# Altium footprint library STM32.PcbLib: 9 footprints
Each footprint in its own frame and in the unit in brackets; x right, y up, seen from the top. Pads: shape width x height; smd on the part's side, far side on the other; paste and mask are expansions set on the pad; w line width, h text height; cw(c..) or ccw(c..) is an arc to the next point about the centre after c.
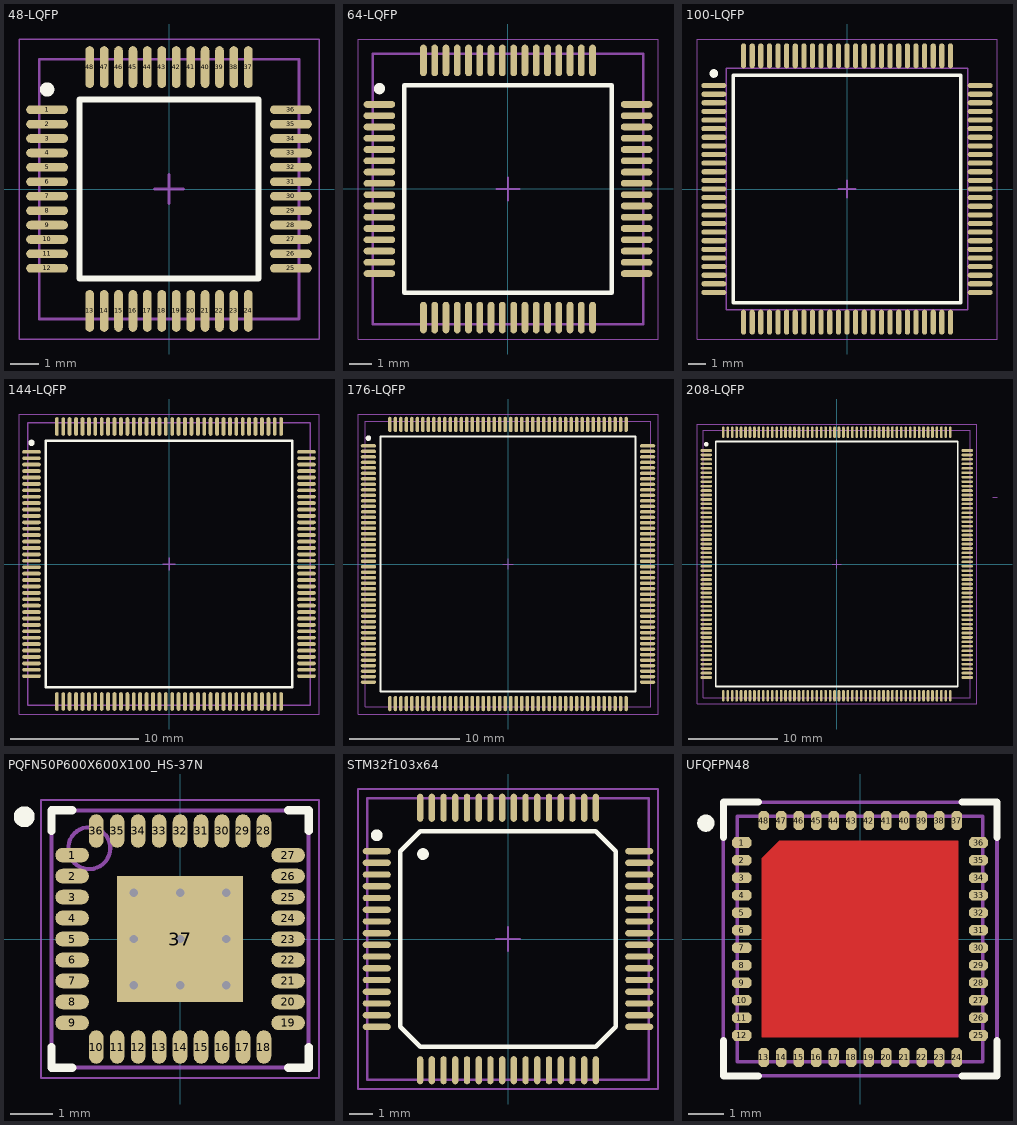
[diagram p0: the footprints below, top view; thin cyan lines are the x and y axes]

## 48-LQFP [mm] "TSQFP, 48-Leads, Body 7,00x7,00mm, Pitch 0,50mm, IPC Medium Density"
height 1.6
pads (48):
  oval 1.45x0.3 smd: 1(-4.225,2.75) 2(-4.225,2.25) 3(-4.225,1.75) 4(-4.225,1.25) 5(-4.225,0.75) 6(-4.225,0.25) 7(-4.225,-0.25) 8(-4.225,-0.75) 9(-4.225,-1.25) 10(-4.225,-1.75) 11(-4.225,-2.25) 12(-4.225,-2.75) 25(4.225,-2.75) 26(4.225,-2.25) 27(4.225,-1.75) 28(4.225,-1.25) 29(4.225,-0.75) 30(4.225,-0.25) 31(4.225,0.25) 32(4.225,0.75) 33(4.225,1.25) 34(4.225,1.75) 35(4.225,2.25) 36(4.225,2.75)
  oval 0.3x1.45 smd: 13(-2.75,-4.225) 14(-2.25,-4.225) 15(-1.75,-4.225) 16(-1.25,-4.225) 17(-0.75,-4.225) 18(-0.25,-4.225) 19(0.25,-4.225) 20(0.75,-4.225) 21(1.25,-4.225) 22(1.75,-4.225) 23(2.25,-4.225) 24(2.75,-4.225) 37(2.75,4.225) 38(2.25,4.225) 39(1.75,4.225) 40(1.25,4.225) 41(0.75,4.225) 42(0.25,4.225) 43(-0.25,4.225) 44(-0.75,4.225) 45(-1.25,4.225) 46(-1.75,4.225) 47(-2.25,4.225) 48(-2.75,4.225)
Top Overlay:
  circle w0.25: c-4.225,3.45 r0.125
  lines w0.2: -3.1,-3.1 3.1,-3.1 3.1,3.1 -3.1,3.1 -3.1,-3.1
Top Assy:
  lines w0.1: -4.5,-4.5 -4.5,4.5 4.5,4.5 4.5,-4.5 -4.5,-4.5
Border:
  lines w0.05: -5.2,-5.2 5.2,-5.2 5.2,5.2 -5.2,5.2 -5.2,-5.2
  lines w0.1: -0.5,0 0.5,0 ; 0,-0.5 0,0.5
3D body "LQFP48_FPT-48P-M05.stp": height 1.5, standoff 0, extent -4.5,-4.5 4.5,4.5

## 64-LQFP [mm] "TSQFP, 64-Leads, Body 10,00x10,00mm, Pitch 0,50mm, IPC Medium Density"
height 1.6
pads (64):
  oval 1.4x0.3 smd: 1(-5.7,3.75) 2(-5.7,3.25) 3(-5.7,2.75) 4(-5.7,2.25) 5(-5.7,1.75) 6(-5.7,1.25) 7(-5.7,0.75) 8(-5.7,0.25) 9(-5.7,-0.25) 10(-5.7,-0.75) 11(-5.7,-1.25) 12(-5.7,-1.75) 13(-5.7,-2.25) 14(-5.7,-2.75) 15(-5.7,-3.25) 16(-5.7,-3.75) 33(5.7,-3.75) 34(5.7,-3.25) 35(5.7,-2.75) 36(5.7,-2.25) 37(5.7,-1.75) 38(5.7,-1.25) 39(5.7,-0.75) 40(5.7,-0.25) 41(5.7,0.25) 42(5.7,0.75) 43(5.7,1.25) 44(5.7,1.75) 45(5.7,2.25) 46(5.7,2.75) 47(5.7,3.25) 48(5.7,3.75)
  oval 0.3x1.4 smd: 17(-3.75,-5.7) 18(-3.25,-5.7) 19(-2.75,-5.7) 20(-2.25,-5.7) 21(-1.75,-5.7) 22(-1.25,-5.7) 23(-0.75,-5.7) 24(-0.25,-5.7) 25(0.25,-5.7) 26(0.75,-5.7) 27(1.25,-5.7) 28(1.75,-5.7) 29(2.25,-5.7) 30(2.75,-5.7) 31(3.25,-5.7) 32(3.75,-5.7) 49(3.75,5.7) 50(3.25,5.7) 51(2.75,5.7) 52(2.25,5.7) 53(1.75,5.7) 54(1.25,5.7) 55(0.75,5.7) 56(0.25,5.7) 57(-0.25,5.7) 58(-0.75,5.7) 59(-1.25,5.7) 60(-1.75,5.7) 61(-2.25,5.7) 62(-2.75,5.7) 63(-3.25,5.7) 64(-3.75,5.7)
Top Overlay:
  circle w0.25: c-5.7,4.45 r0.125
  lines w0.2: -4.6,-4.6 4.6,-4.6 4.6,4.6 -4.6,4.6 -4.6,-4.6
Top Assy:
  lines w0.1: -6,-6 -6,6 6,6 6,-6 -6,-6
Border:
  lines w0.05: -6.65,-6.65 6.65,-6.65 6.65,6.65 -6.65,6.65 -6.65,-6.65
  lines w0.1: -0.5,0 0.5,0 ; 0,-0.5 0,0.5
3D body "LQFP64_FPT-64P-M03.stp": height 1.5, standoff 0, extent -6,-6 6,6

## 100-LQFP [mm] "TSQFP, 100-Leads, Body 14,00x14,00mm, Pitch 0,50mm, IPC Medium Density"
height 1.6
pads (100):
  oval 1.45x0.3 smd: 1(-7.725,6) 2(-7.725,5.5) 3(-7.725,5) 4(-7.725,4.5) 5(-7.725,4) 6(-7.725,3.5) 7(-7.725,3) 8(-7.725,2.5) 9(-7.725,2) 10(-7.725,1.5) 11(-7.725,1) 12(-7.725,0.5) 13(-7.725,0) 14(-7.725,-0.5) 15(-7.725,-1) 16(-7.725,-1.5) 17(-7.725,-2) 18(-7.725,-2.5) 19(-7.725,-3) 20(-7.725,-3.5) 21(-7.725,-4) 22(-7.725,-4.5) 23(-7.725,-5) 24(-7.725,-5.5) 25(-7.725,-6) 51(7.725,-6) 52(7.725,-5.5) 53(7.725,-5) 54(7.725,-4.5) 55(7.725,-4) 56(7.725,-3.5) 57(7.725,-3) 58(7.725,-2.5) 59(7.725,-2) 60(7.725,-1.5) 61(7.725,-1) 62(7.725,-0.5) 63(7.725,0) 64(7.725,0.5) 65(7.725,1) 66(7.725,1.5) 67(7.725,2) 68(7.725,2.5) 69(7.725,3) 70(7.725,3.5) 71(7.725,4) 72(7.725,4.5) 73(7.725,5) 74(7.725,5.5) 75(7.725,6)
  oval 0.3x1.45 smd: 26(-6,-7.725) 27(-5.5,-7.725) 28(-5,-7.725) 29(-4.5,-7.725) 30(-4,-7.725) 31(-3.5,-7.725) 32(-3,-7.725) 33(-2.5,-7.725) 34(-2,-7.725) 35(-1.5,-7.725) 36(-1,-7.725) 37(-0.5,-7.725) 38(0,-7.725) 39(0.5,-7.725) 40(1,-7.725) 41(1.5,-7.725) 42(2,-7.725) 43(2.5,-7.725) 44(3,-7.725) 45(3.5,-7.725) 46(4,-7.725) 47(4.5,-7.725) 48(5,-7.725) 49(5.5,-7.725) 50(6,-7.725) 76(6,7.725) 77(5.5,7.725) 78(5,7.725) 79(4.5,7.725) 80(4,7.725) 81(3.5,7.725) 82(3,7.725) 83(2.5,7.725) 84(2,7.725) 85(1.5,7.725) 86(1,7.725) 87(0.5,7.725) 88(0,7.725) 89(-0.5,7.725) 90(-1,7.725) 91(-1.5,7.725) 92(-2,7.725) 93(-2.5,7.725) 94(-3,7.725) 95(-3.5,7.725) 96(-4,7.725) 97(-4.5,7.725) 98(-5,7.725) 99(-5.5,7.725) 100(-6,7.725)
Top Overlay:
  circle w0.25: c-7.725,6.7 r0.125
  lines w0.2: -6.6,-6.6 -6.6,6.6 6.6,6.6 6.6,-6.6 -6.6,-6.6
Top Assy:
  lines w0.1: -7,-7 7,-7 7,7 -7,7 -7,-7
Border:
  lines w0.05: -8.7,-8.7 -8.7,8.7 8.7,8.7 8.7,-8.7 -8.7,-8.7
  lines w0.1: -0.5,0 0.5,0 ; 0,-0.5 0,0.5
3D body "LQFP100_FPT-100P-M05.stp": height 1.5, standoff 0, extent -8,-8 8,8

## 144-LQFP [mm] "TSQFP, 144-Leads, Body 20,00x20,00mm, Pitch 0,50mm, IPC Medium Density"
height 1.6
pads (144):
  oval 1.45x0.3 smd: 1(-10.725,8.75) 2(-10.725,8.25) 3(-10.725,7.75) 4(-10.725,7.25) 5(-10.725,6.75) 6(-10.725,6.25) 7(-10.725,5.75) 8(-10.725,5.25) 9(-10.725,4.75) 10(-10.725,4.25) 11(-10.725,3.75) 12(-10.725,3.25) 13(-10.725,2.75) 14(-10.725,2.25) 15(-10.725,1.75) 16(-10.725,1.25) 17(-10.725,0.75) 18(-10.725,0.25) 19(-10.725,-0.25) 20(-10.725,-0.75) 21(-10.725,-1.25) 22(-10.725,-1.75) 23(-10.725,-2.25) 24(-10.725,-2.75) 25(-10.725,-3.25) 26(-10.725,-3.75) 27(-10.725,-4.25) 28(-10.725,-4.75) 29(-10.725,-5.25) 30(-10.725,-5.75) 31(-10.725,-6.25) 32(-10.725,-6.75) 33(-10.725,-7.25) 34(-10.725,-7.75) 35(-10.725,-8.25) 36(-10.725,-8.75) 73(10.725,-8.75) 74(10.725,-8.25) 75(10.725,-7.75) 76(10.725,-7.25) 77(10.725,-6.75) 78(10.725,-6.25) 79(10.725,-5.75) 80(10.725,-5.25) 81(10.725,-4.75) 82(10.725,-4.25) 83(10.725,-3.75) 84(10.725,-3.25) 85(10.725,-2.75) 86(10.725,-2.25) 87(10.725,-1.75) 88(10.725,-1.25) 89(10.725,-0.75) 90(10.725,-0.25) 91(10.725,0.25) 92(10.725,0.75) 93(10.725,1.25) 94(10.725,1.75) 95(10.725,2.25) 96(10.725,2.75) 97(10.725,3.25) 98(10.725,3.75) 99(10.725,4.25) 100(10.725,4.75) 101(10.725,5.25) 102(10.725,5.75) 103(10.725,6.25) 104(10.725,6.75) 105(10.725,7.25) 106(10.725,7.75) 107(10.725,8.25) 108(10.725,8.75)
  oval 0.3x1.45 smd: 37(-8.75,-10.725) 38(-8.25,-10.725) 39(-7.75,-10.725) 40(-7.25,-10.725) 41(-6.75,-10.725) 42(-6.25,-10.725) 43(-5.75,-10.725) 44(-5.25,-10.725) 45(-4.75,-10.725) 46(-4.25,-10.725) 47(-3.75,-10.725) 48(-3.25,-10.725) 49(-2.75,-10.725) 50(-2.25,-10.725) 51(-1.75,-10.725) 52(-1.25,-10.725) 53(-0.75,-10.725) 54(-0.25,-10.725) 55(0.25,-10.725) 56(0.75,-10.725) 57(1.25,-10.725) 58(1.75,-10.725) 59(2.25,-10.725) 60(2.75,-10.725) 61(3.25,-10.725) 62(3.75,-10.725) 63(4.25,-10.725) 64(4.75,-10.725) 65(5.25,-10.725) 66(5.75,-10.725) 67(6.25,-10.725) 68(6.75,-10.725) 69(7.25,-10.725) 70(7.75,-10.725) 71(8.25,-10.725) 72(8.75,-10.725) 109(8.75,10.725) 110(8.25,10.725) 111(7.75,10.725) 112(7.25,10.725) 113(6.75,10.725) 114(6.25,10.725) 115(5.75,10.725) 116(5.25,10.725) 117(4.75,10.725) 118(4.25,10.725) 119(3.75,10.725) 120(3.25,10.725) 121(2.75,10.725) 122(2.25,10.725) 123(1.75,10.725) 124(1.25,10.725) 125(0.75,10.725) 126(0.25,10.725) 127(-0.25,10.725) 128(-0.75,10.725) 129(-1.25,10.725) 130(-1.75,10.725) 131(-2.25,10.725) 132(-2.75,10.725) 133(-3.25,10.725) 134(-3.75,10.725) 135(-4.25,10.725) 136(-4.75,10.725) 137(-5.25,10.725) 138(-5.75,10.725) 139(-6.25,10.725) 140(-6.75,10.725) 141(-7.25,10.725) 142(-7.75,10.725) 143(-8.25,10.725) 144(-8.75,10.725)
Top Overlay:
  circle w0.25: c-10.725,9.45 r0.125
  lines w0.2: -9.6,-9.6 -9.6,9.6 9.6,9.6 9.6,-9.6 -9.6,-9.6
Top Assy:
  lines w0.1: -11,-11 11,-11 11,11 -11,11 -11,-11
Border:
  lines w0.05: -11.7,-11.7 -11.7,11.7 11.7,11.7 11.7,-11.7 -11.7,-11.7
  lines w0.1: -0.5,0 0.5,0 ; 0,-0.5 0,0.5
3D body "LQFP144_FPT-144P-M08.stp": height 1.7, standoff 0, extent -11,-11 11,11

## 176-LQFP [mm] "TSQFP, 176-Leads, Body 24,00x24,00mm, Pitch 0,50mm, IPC Medium Density"
height 1.6
pads (176):
  oval 1.4x0.3 smd: 1(-12.7,10.75) 2(-12.7,10.25) 3(-12.7,9.75) 4(-12.7,9.25) 5(-12.7,8.75) 6(-12.7,8.25) 7(-12.7,7.75) 8(-12.7,7.25) 9(-12.7,6.75) 10(-12.7,6.25) 11(-12.7,5.75) 12(-12.7,5.25) 13(-12.7,4.75) 14(-12.7,4.25) 15(-12.7,3.75) 16(-12.7,3.25) 17(-12.7,2.75) 18(-12.7,2.25) 19(-12.7,1.75) 20(-12.7,1.25) 21(-12.7,0.75) 22(-12.7,0.25) 23(-12.7,-0.25) 24(-12.7,-0.75) 25(-12.7,-1.25) 26(-12.7,-1.75) 27(-12.7,-2.25) 28(-12.7,-2.75) 29(-12.7,-3.25) 30(-12.7,-3.75) 31(-12.7,-4.25) 32(-12.7,-4.75) 33(-12.7,-5.25) 34(-12.7,-5.75) 35(-12.7,-6.25) 36(-12.7,-6.75) 37(-12.7,-7.25) 38(-12.7,-7.75) 39(-12.7,-8.25) 40(-12.7,-8.75) 41(-12.7,-9.25) 42(-12.7,-9.75) 43(-12.7,-10.25) 44(-12.7,-10.75) 89(12.7,-10.75) 90(12.7,-10.25) 91(12.7,-9.75) 92(12.7,-9.25) 93(12.7,-8.75) 94(12.7,-8.25) 95(12.7,-7.75) 96(12.7,-7.25) 97(12.7,-6.75) 98(12.7,-6.25) 99(12.7,-5.75) 100(12.7,-5.25) 101(12.7,-4.75) 102(12.7,-4.25) 103(12.7,-3.75) 104(12.7,-3.25) 105(12.7,-2.75) 106(12.7,-2.25) 107(12.7,-1.75) 108(12.7,-1.25) 109(12.7,-0.75) 110(12.7,-0.25) 111(12.7,0.25) 112(12.7,0.75) 113(12.7,1.25) 114(12.7,1.75) 115(12.7,2.25) 116(12.7,2.75) 117(12.7,3.25) 118(12.7,3.75) 119(12.7,4.25) 120(12.7,4.75) 121(12.7,5.25) 122(12.7,5.75) 123(12.7,6.25) 124(12.7,6.75) 125(12.7,7.25) 126(12.7,7.75) 127(12.7,8.25) 128(12.7,8.75) 129(12.7,9.25) 130(12.7,9.75) 131(12.7,10.25) 132(12.7,10.75)
  oval 0.3x1.4 smd: 45(-10.75,-12.7) 46(-10.25,-12.7) 47(-9.75,-12.7) 48(-9.25,-12.7) 49(-8.75,-12.7) 50(-8.25,-12.7) 51(-7.75,-12.7) 52(-7.25,-12.7) 53(-6.75,-12.7) 54(-6.25,-12.7) 55(-5.75,-12.7) 56(-5.25,-12.7) 57(-4.75,-12.7) 58(-4.25,-12.7) 59(-3.75,-12.7) 60(-3.25,-12.7) 61(-2.75,-12.7) 62(-2.25,-12.7) 63(-1.75,-12.7) 64(-1.25,-12.7) 65(-0.75,-12.7) 66(-0.25,-12.7) 67(0.25,-12.7) 68(0.75,-12.7) 69(1.25,-12.7) 70(1.75,-12.7) 71(2.25,-12.7) 72(2.75,-12.7) 73(3.25,-12.7) 74(3.75,-12.7) 75(4.25,-12.7) 76(4.75,-12.7) 77(5.25,-12.7) 78(5.75,-12.7) 79(6.25,-12.7) 80(6.75,-12.7) 81(7.25,-12.7) 82(7.75,-12.7) 83(8.25,-12.7) 84(8.75,-12.7) 85(9.25,-12.7) 86(9.75,-12.7) 87(10.25,-12.7) 88(10.75,-12.7) 133(10.75,12.7) 134(10.25,12.7) 135(9.75,12.7) 136(9.25,12.7) 137(8.75,12.7) 138(8.25,12.7) 139(7.75,12.7) 140(7.25,12.7) 141(6.75,12.7) 142(6.25,12.7) 143(5.75,12.7) 144(5.25,12.7) 145(4.75,12.7) 146(4.25,12.7) 147(3.75,12.7) 148(3.25,12.7) 149(2.75,12.7) 150(2.25,12.7) 151(1.75,12.7) 152(1.25,12.7) 153(0.75,12.7) 154(0.25,12.7) 155(-0.25,12.7) 156(-0.75,12.7) 157(-1.25,12.7) 158(-1.75,12.7) 159(-2.25,12.7) 160(-2.75,12.7) 161(-3.25,12.7) 162(-3.75,12.7) 163(-4.25,12.7) 164(-4.75,12.7) 165(-5.25,12.7) 166(-5.75,12.7) 167(-6.25,12.7) 168(-6.75,12.7) 169(-7.25,12.7) 170(-7.75,12.7) 171(-8.25,12.7) 172(-8.75,12.7) 173(-9.25,12.7) 174(-9.75,12.7) 175(-10.25,12.7) 176(-10.75,12.7)
Top Overlay:
  circle w0.25: c-12.7,11.45 r0.125
  lines w0.2: -11.6,-11.6 11.6,-11.6 11.6,11.6 -11.6,11.6 -11.6,-11.6
Top Assy:
  lines w0.1: -13,-13 13,-13 13,13 -13,13 -13,-13 ; -13,-13 -13,-13
Border:
  lines w0.05: -13.65,-13.65 13.65,-13.65 13.65,13.65 -13.65,13.65 -13.65,-13.65
  lines w0.1: -0.5,0 0.5,0 ; 0,-0.5 0,0.5
3D body "LQFP176_FPT-176P-M02.stp": height 1.5, standoff 0, extent -13,-13 13,13

## 208-LQFP [mm] "TSQFP, 208-Leads, Body 28,00x28,30mm, Pitch 0,50mm, IPC Medium Density"
height 1.6
pads (208):
  oval 1.3x0.3 smd: 1(-14.65,12.75) 2(-14.65,12.25) 3(-14.65,11.75) 4(-14.65,11.25) 5(-14.65,10.75) 6(-14.65,10.25) 7(-14.65,9.75) 8(-14.65,9.25) 9(-14.65,8.75) 10(-14.65,8.25) 11(-14.65,7.75) 12(-14.65,7.25) 13(-14.65,6.75) 14(-14.65,6.25) 15(-14.65,5.75) 16(-14.65,5.25) 17(-14.65,4.75) 18(-14.65,4.25) 19(-14.65,3.75) 20(-14.65,3.25) 21(-14.65,2.75) 22(-14.65,2.25) 23(-14.65,1.75) 24(-14.65,1.25) 25(-14.65,0.75) 26(-14.65,0.25) 27(-14.65,-0.25) 28(-14.65,-0.75) 29(-14.65,-1.25) 30(-14.65,-1.75) 31(-14.65,-2.25) 32(-14.65,-2.75) 33(-14.65,-3.25) 34(-14.65,-3.75) 35(-14.65,-4.25) 36(-14.65,-4.75) 37(-14.65,-5.25) 38(-14.65,-5.75) 39(-14.65,-6.25) 40(-14.65,-6.75) 41(-14.65,-7.25) 42(-14.65,-7.75) 43(-14.65,-8.25) 44(-14.65,-8.75) 45(-14.65,-9.25) 46(-14.65,-9.75) 47(-14.65,-10.25) 48(-14.65,-10.75) 49(-14.65,-11.25) 50(-14.65,-11.75) 51(-14.65,-12.25) 52(-14.65,-12.75) 105(14.65,-12.75) 106(14.65,-12.25) 107(14.65,-11.75) 108(14.65,-11.25) 109(14.65,-10.75) 110(14.65,-10.25) 111(14.65,-9.75) 112(14.65,-9.25) 113(14.65,-8.75) 114(14.65,-8.25) 115(14.65,-7.75) 116(14.65,-7.25) 117(14.65,-6.75) 118(14.65,-6.25) 119(14.65,-5.75) 120(14.65,-5.25) 121(14.65,-4.75) 122(14.65,-4.25) 123(14.65,-3.75) 124(14.65,-3.25) 125(14.65,-2.75) 126(14.65,-2.25) 127(14.65,-1.75) 128(14.65,-1.25) 129(14.65,-0.75) 130(14.65,-0.25) 131(14.65,0.25) 132(14.65,0.75) 133(14.65,1.25) 134(14.65,1.75) 135(14.65,2.25) 136(14.65,2.75) 137(14.65,3.25) 138(14.65,3.75) 139(14.65,4.25) 140(14.65,4.75) 141(14.65,5.25) 142(14.65,5.75) 143(14.65,6.25) 144(14.65,6.75) 145(14.65,7.25) 146(14.65,7.75) 147(14.65,8.25) 148(14.65,8.75) 149(14.65,9.25) 150(14.65,9.75) 151(14.65,10.25) 152(14.65,10.75) 153(14.65,11.25) 154(14.65,11.75) 155(14.65,12.25) 156(14.65,12.75)
  oval 0.3x1.3 smd: 53(-12.75,-14.8) 54(-12.25,-14.8) 55(-11.75,-14.8) 56(-11.25,-14.8) 57(-10.75,-14.8) 58(-10.25,-14.8) 59(-9.75,-14.8) 60(-9.25,-14.8) 61(-8.75,-14.8) 62(-8.25,-14.8) 63(-7.75,-14.8) 64(-7.25,-14.8) 65(-6.75,-14.8) 66(-6.25,-14.8) 67(-5.75,-14.8) 68(-5.25,-14.8) 69(-4.75,-14.8) 70(-4.25,-14.8) 71(-3.75,-14.8) 72(-3.25,-14.8) 73(-2.75,-14.8) 74(-2.25,-14.8) 75(-1.75,-14.8) 76(-1.25,-14.8) 77(-0.75,-14.8) 78(-0.25,-14.8) 79(0.25,-14.8) 80(0.75,-14.8) 81(1.25,-14.8) 82(1.75,-14.8) 83(2.25,-14.8) 84(2.75,-14.8) 85(3.25,-14.8) 86(3.75,-14.8) 87(4.25,-14.8) 88(4.75,-14.8) 89(5.25,-14.8) 90(5.75,-14.8) 91(6.25,-14.8) 92(6.75,-14.8) 93(7.25,-14.8) 94(7.75,-14.8) 95(8.25,-14.8) 96(8.75,-14.8) 97(9.25,-14.8) 98(9.75,-14.8) 99(10.25,-14.8) 100(10.75,-14.8) 101(11.25,-14.8) 102(11.75,-14.8) 103(12.25,-14.8) 104(12.75,-14.8) 157(12.75,14.8) 158(12.25,14.8) 159(11.75,14.8) 160(11.25,14.8) 161(10.75,14.8) 162(10.25,14.8) 163(9.75,14.8) 164(9.25,14.8) 165(8.75,14.8) 166(8.25,14.8) 167(7.75,14.8) 168(7.25,14.8) 169(6.75,14.8) 170(6.25,14.8) 171(5.75,14.8) 172(5.25,14.8) 173(4.75,14.8) 174(4.25,14.8) 175(3.75,14.8) 176(3.25,14.8) 177(2.75,14.8) 178(2.25,14.8) 179(1.75,14.8) 180(1.25,14.8) 181(0.75,14.8) 182(0.25,14.8) 183(-0.25,14.8) 184(-0.75,14.8) 185(-1.25,14.8) 186(-1.75,14.8) 187(-2.25,14.8) 188(-2.75,14.8) 189(-3.25,14.8) 190(-3.75,14.8) 191(-4.25,14.8) 192(-4.75,14.8) 193(-5.25,14.8) 194(-5.75,14.8) 195(-6.25,14.8) 196(-6.75,14.8) 197(-7.25,14.8) 198(-7.75,14.8) 199(-8.25,14.8) 200(-8.75,14.8) 201(-9.25,14.8) 202(-9.75,14.8) 203(-10.25,14.8) 204(-10.75,14.8) 205(-11.25,14.8) 206(-11.75,14.8) 207(-12.25,14.8) 208(-12.75,14.8)
Top Overlay:
  circle w0.25: c-14.65,13.45 r0.125
  lines w0.2: -13.6,-13.75 -13.6,13.75 13.6,13.75 13.6,-13.75 -13.6,-13.75
Top Assy:
  lines w0.1: -15,-15 15,-15 15,15 -15,15 -15,-15
3D Model:
  lines w0.1: 17.5,7.5 18,7.5
Border:
  lines w0.05: -15.7,-15.7 -15.7,15.7 15.7,15.7 15.7,-15.7 -15.7,-15.7
  lines w0.1: -0.5,0 0.5,0 ; 0,-0.5 0,0.5
3D body "LQFP208_FPT-208P-M06.stp": height 1.7, standoff 0, extent -15,-15 15,15

## PQFN50P600X600X100_HS-37N [mm] "PQFN, 36-Leads, Body 6,00x6,00mm, Pitch 0,50mm, Thermal Pad 3,00x3,00mm, IPC Medium Density"
height 1
pads (37):
  oval 0.8x0.35 smd: 1(-2.575,2) 2(-2.575,1.5) 3(-2.575,1) 4(-2.575,0.5) 5(-2.575,0) 6(-2.575,-0.5) 7(-2.575,-1) 8(-2.575,-1.5) 9(-2.575,-2) 19(2.575,-2) 20(2.575,-1.5) 21(2.575,-1) 22(2.575,-0.5) 23(2.575,0) 24(2.575,0.5) 25(2.575,1) 26(2.575,1.5) 27(2.575,2)
  oval 0.35x0.8 smd: 10(-2,-2.575) 11(-1.5,-2.575) 12(-1,-2.575) 13(-0.5,-2.575) 14(0,-2.575) 15(0.5,-2.575) 16(1,-2.575) 17(1.5,-2.575) 18(2,-2.575) 28(2,2.575) 29(1.5,2.575) 30(1,2.575) 31(0.5,2.575) 32(0,2.575) 33(-0.5,2.575) 34(-1,2.575) 35(-1.5,2.575) 36(-2,2.575)
  rect 3x3 smd: 37(0,0)
via -1.1,1.1 diameter 0.5 hole 0.2
via 0,1.1 diameter 0.5 hole 0.2
via 1.1,1.1 diameter 0.5 hole 0.2
via -1.1,0 diameter 0.5 hole 0.2
via 0,0 diameter 0.5 hole 0.2
via 1.1,0 diameter 0.5 hole 0.2
via -1.1,-1.1 diameter 0.5 hole 0.2
via 0,-1.1 diameter 0.5 hole 0.2
via 1.1,-1.1 diameter 0.5 hole 0.2
Top Overlay:
  circle w0.25: c-3.715,2.915 r0.125
  lines w0.2: -3.065,-2.575 -3.065,-3.065 -2.575,-3.065 ; -3.065,2.575 -3.065,3.065 -2.575,3.065 ; 2.575,-3.065 3.065,-3.065 3.065,-2.575 ; 2.575,3.065 3.065,3.065 3.065,2.575
Top Assy:
  circle w0.1: c-2.165,2.165 r0.5
  lines w0.1: -3.065,-3.065 -3.065,3.065 3.065,3.065 3.065,-3.065 -3.065,-3.065
Border:
  lines w0.05: -3.313,-3.312 3.312,-3.312 3.312,3.313 -3.313,3.313 -3.313,-3.312
  lines w0.1: -0.5,0 0.5,0 ; 0,-0.5 0,0.5
3D body "PQFN50P600X600X100_HS-37N.step": height 1, standoff 0, extent -3.065,-3.065 3.065,3.065

## STM32f103x64 [mm]
pads (64):
  oval 1.2x0.27 smd: 1(-5.6,3.75) 2(-5.6,3.25) 3(-5.6,2.75) 4(-5.6,2.25) 5(-5.6,1.75) 6(-5.6,1.25) 7(-5.6,0.75) 8(-5.6,0.25) 9(-5.6,-0.25) 10(-5.6,-0.75) 11(-5.6,-1.25) 12(-5.6,-1.75) 13(-5.6,-2.25) 14(-5.6,-2.75) 15(-5.6,-3.25) 16(-5.6,-3.75) 33(5.6,-3.75) 34(5.6,-3.25) 35(5.6,-2.75) 36(5.6,-2.25) 37(5.6,-1.75) 38(5.6,-1.25) 39(5.6,-0.75) 40(5.6,-0.25) 41(5.6,0.25) 42(5.6,0.75) 43(5.6,1.25) 44(5.6,1.75) 45(5.6,2.25) 46(5.6,2.75) 47(5.6,3.25) 48(5.6,3.75)
  oval 0.27x1.2 smd: 17(-3.75,-5.6) 18(-3.25,-5.6) 19(-2.75,-5.6) 20(-2.25,-5.6) 21(-1.75,-5.6) 22(-1.25,-5.6) 23(-0.75,-5.6) 24(-0.25,-5.6) 25(0.25,-5.6) 26(0.75,-5.6) 27(1.25,-5.6) 28(1.75,-5.6) 29(2.25,-5.6) 30(2.75,-5.6) 31(3.25,-5.6) 32(3.75,-5.6) 49(3.75,5.6) 50(3.25,5.6) 51(2.75,5.6) 52(2.25,5.6) 53(1.75,5.6) 54(1.25,5.6) 55(0.75,5.6) 56(0.25,5.6) 57(-0.25,5.6) 58(-0.75,5.6) 59(-1.25,5.6) 60(-1.75,5.6) 61(-2.25,5.6) 62(-2.75,5.6) 63(-3.25,5.6) 64(-3.75,5.6)
Top Overlay:
  circle w0.25: c-5.6,4.425 r0.125
  circle w0.25: c-3.625,3.625 r0.125
  lines w0.2: -4.6,-3.75 -3.75,-4.6 3.75,-4.6 4.6,-3.75 4.6,3.75 3.75,4.6 -3.75,4.6 -4.6,3.75 -4.6,-3.75
Top Assy:
  lines w0.1: -6,-6 6,-6 6,6 -6,6 -6,-6
Border:
  lines w0.1: -0.5,0 0.5,0 ; 0,-0.5 0,0.5 ; -6.4,-6.4 -6.4,6.4 6.4,6.4 6.4,-6.4 -6.4,-6.4
3D body "User Library-TSQFP50P1200X1200X160-64N.STEP": height 1.6, standoff 0, extent -6,-6 6,6

## UFQFPN48 [mm]
pads (49):
  oct 0.55x0.3 smd: 1(-3.375,2.75) 2(-3.375,2.25) 3(-3.375,1.75) 4(-3.375,1.25) 5(-3.375,0.75) 6(-3.375,0.25) 7(-3.375,-0.25) 8(-3.375,-0.75) 9(-3.375,-1.25) 10(-3.375,-1.75) 11(-3.375,-2.25) 12(-3.375,-2.75) 25(3.375,-2.75) 26(3.375,-2.25) 27(3.375,-1.75) 28(3.375,-1.25) 29(3.375,-0.75) 30(3.375,-0.25) 31(3.375,0.25) 32(3.375,0.75) 33(3.375,1.25) 34(3.375,1.75) 35(3.375,2.25) 36(3.375,2.75)
  oct 0.3x0.55 smd: 13(-2.75,-3.375) 14(-2.25,-3.375) 15(-1.75,-3.375) 16(-1.25,-3.375) 17(-0.75,-3.375) 18(-0.25,-3.375) 19(0.25,-3.375) 20(0.75,-3.375) 21(1.25,-3.375) 22(1.75,-3.375) 23(2.25,-3.375) 24(2.75,-3.375) 37(2.75,3.375) 38(2.25,3.375) 39(1.75,3.375) 40(1.25,3.375) 41(0.75,3.375) 42(0.25,3.375) 43(-0.25,3.375) 44(-0.75,3.375) 45(-1.25,3.375) 46(-1.75,3.375) 47(-2.25,3.375) 48(-2.75,3.375)
  round 0.5 on Top Overlay: ""(-4.4,3.3)
Top Layer:
  region: -2.8,-2.8 -2.8,2.3 -2.3,2.8 2.8,2.8 2.8,-2.8
Top Overlay:
  lines w0.2: -3.9,-2.9 -3.9,-3.9 -2.9,-3.9 ; -3.9,2.9 -3.9,3.9 -2.9,3.9 ; 2.9,-3.9 3.9,-3.9 3.9,-2.9 ; 2.9,3.9 3.9,3.9 3.9,2.9
Top Assy:
  lines w0.1: -3.5,-3.5 3.5,-3.5 3.5,3.5 -3.5,3.5 -3.5,-3.5
Border:
  lines w0.1: -3.9,-3.9 -3.9,3.9 3.9,3.9 3.9,-3.9 -3.9,-3.9
3D body "UFQFPN48.stp": height 0.55, standoff 0, extent -3.5,-3.5 3.5,3.5